# EAGLE library part OLED_SPI_128X64_96IN (library PatternAgents-ProtoPads)
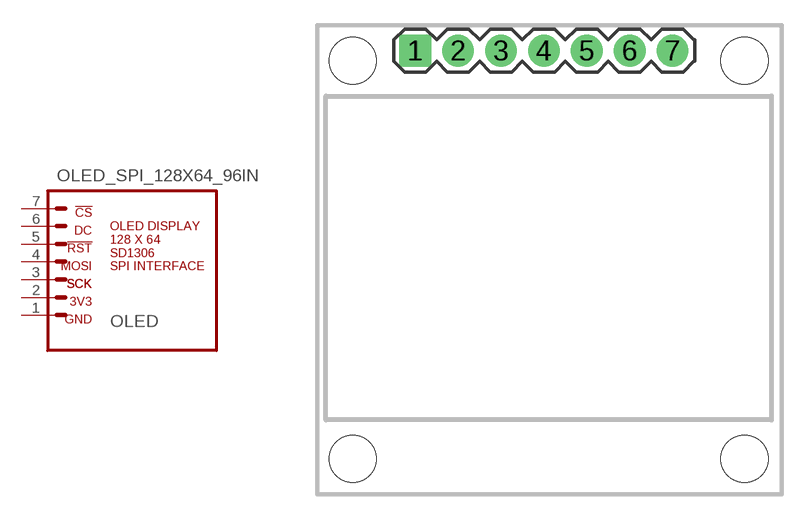
[diagram p10: symbol with the pads of OLED_128X64_96; footprint OLED_128X64_96]

Designator prefix OLED

## OLED_SPI_128X64_96IN  [OLED_128X64_96]
1  1  pas
2  2  pas
3  3  pas
4  4  pas
5  5  pas
6  6  pas
7  7  pas

## Footprint OLED_128X64_96 (pad centres in mm)
drill 1.016 pad 1.88 square: 1 5.8,26.3
drill 1.016 pad 1.88: 2 8.34,26.3; 3 10.88,26.3; 4 13.42,26.3; 5 15.96,26.3; 6 18.5,26.3; 7 21.04,26.3
hole 2.8 at 2.1,25.7
hole 2.8 at 25.3,25.7
hole 2.8 at 2.1,2.1
hole 2.8 at 25.3,2.1